# Altium schematic symbol library Capacitor_0805.SchLib: 36 symbols
Pins are listed as number, name and electrical type; pins without a type are passive.

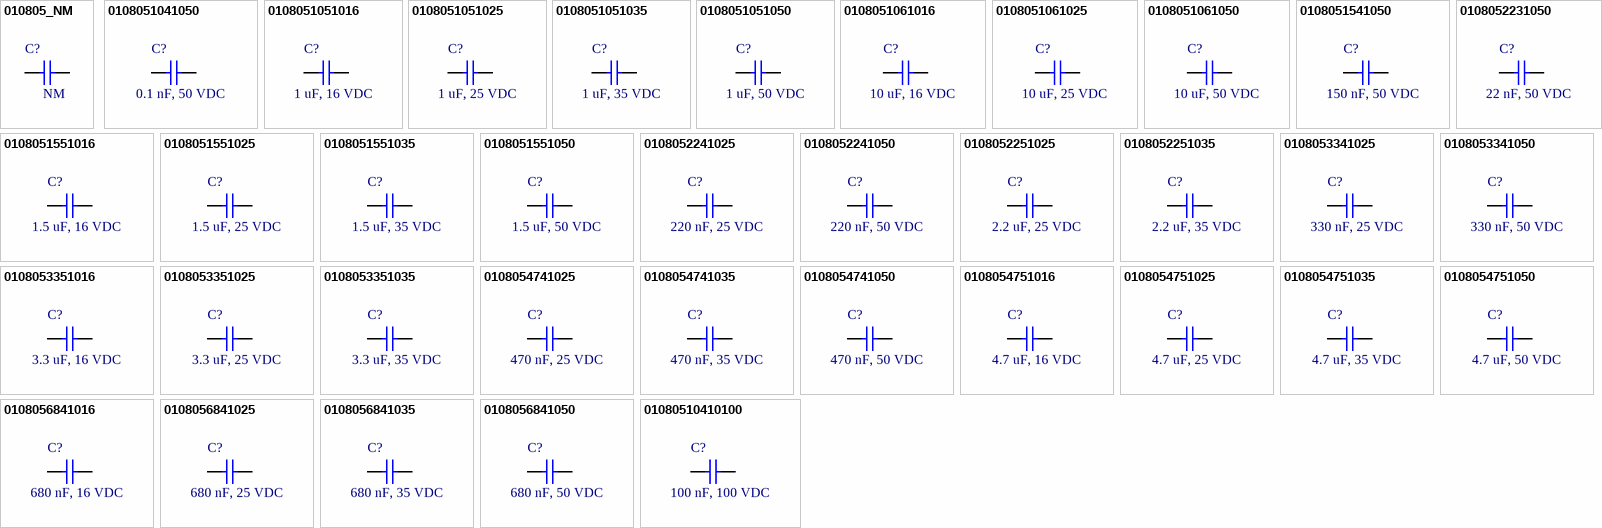
[diagram p0: symbols 010805_NM to 01080510410100]

## 010805_NM
designator C?, comment NM
CAP, size 0805, NM, N/A; Packaging: Tape and Reel; Capacitance: N/A; Supplier 1: Mouser; Supplier 1 Part Number: N/A; Supplier 1 URL: N/A; Supplier 2: Digi-Key; Supplier 2 Part Number: N/A; Supplier 2 URL: N/A; Supplier 3: thegioiic; Supplier 3 Part Number: N/A; Supplier 3 URL: N/A; Tolerance: N/A; Voltage Rating DC: N/A; Value: NM; Manufacturer: N/A; Manufacturer Part Number: N/A; ComponentLink1Description: Datasheet; ComponentLink1URL: N/A; Mount: SMD/SMT; Operating Temperature Max: + 85 C; Operating Temperature Min: - 40 C; Package / Case: 0805; LCSC Part #: N/A
footprint CAP_0805
pins: 1, 2

## 0108051041050
designator C?, comment 0.1 nF, 50 VDC
CAP, size 0805, 0.1 nF, 50 VDC, 10%; Manufacturer: TDK; Manufacturer Part Number: CGA4J2X8R1H104K125AD; Capacitance: 0.1 nF; Tolerance: +/-10%; Voltage Rating DC: 50 VDC; Value: 0.1 nF; Packaging: Tape and Reel; Supplier 1 URL: https://www.mouser.vn/ProductDetail/TDK/CGA4J2X8R1H104K125AD?qs=LcTL%2F5vFEzExqZqv3rh1qQ%3D%3D&utm_source=mouser-refine-download&utm_medium=file&utm_campaign=CGA4J2X8R1H104K125AD&utm_content=TDK; Supplier 2 URL: https://www.digikey.com/en/products/detail/tdk-corporation/cga4j2x8r1h104k125ad/3248169; Supplier 3 URL: N/A; Supplier 1: Mouser; Supplier 1 Part Number: 810-C2012X8R1H104KEP; Supplier 2: Digi-Key; Supplier 2 Part Number: 445-8810-2-ND; Supplier 3: thegioiic; Supplier 3 Part Number: OEM; ComponentLink1Description: Datasheet; ComponentLink1URL: https://product.tdk.com/system/files/dam/doc/product/capacitor/ceramic/mlcc/catalog/mlcc_automotive_epoxy_en.pdf?ref_disty=mouser; Mount: SMD/SMT; Operating Temperature Max: + 85 C; Operating Temperature Min: - 40 C; Package / Case: 0805; LCSC Part #: N/A
footprint CAP_0805
signal-integrity model CapModel
simulation model C_Capacitor_Default (Model Description)
pins: 1, 2

## 0108051051016
designator C?, comment 1 uF, 16 VDC
CAP, size 0805, 1 uF, 16 VDC, 10%; Manufacturer: TDK; Manufacturer Part Number: CGA4J2X7R1C105K125AA; Capacitance: 1 uF; Tolerance: +/-10%; Voltage Rating DC: 16 VDC; Value: 1 uF; Packaging: Tape and Reel; Supplier 1 URL: https://www.mouser.vn/ProductDetail/TDK/CGA4J2X7R1C105K125AA?qs=NRhsANhppD8sFjo%252B1TQuCQ%3D%3D&utm_source=mouser-refine-download&utm_medium=file&utm_campaign=CGA4J2X7R1C105K125AA&utm_content=TDK; Supplier 2 URL: https://www.digikey.com/en/products/detail/tdk-corporation/cga4j2x7r1c105k125aa/2443167; Supplier 3 URL: N/A; Supplier 1: Mouser; Supplier 1 Part Number: 810-CGA4J2X7R1C105K; Supplier 2: Digi-Key; Supplier 2 Part Number: 445-5689-2-ND; Supplier 3: thegioiic; Supplier 3 Part Number: OEM; ComponentLink1Description: Datasheet; ComponentLink1URL: https://product.tdk.com/system/files/dam/doc/product/capacitor/ceramic/mlcc/catalog/mlcc_automotive_general_en.pdf?ref_disty=mouser; Mount: SMD/SMT; Operating Temperature Max: + 85 C; Operating Temperature Min: - 40 C; Package / Case: 0805; LCSC Part #: N/A
footprint CAP_0805
signal-integrity model CapModel
simulation model C_Capacitor_Default (Model Description)
pins: 1, 2

## 0108051051025
designator C?, comment 1 uF, 25 VDC
CAP, size 0805, 1 uF, 25 VDC, 10%; Manufacturer: TDK; Manufacturer Part Number: CGA4J1X8R1E105K125AE; Capacitance: 1 uF; Tolerance: +/-10%; Voltage Rating DC: 25 VDC; Value: 1 uF; Packaging: Tape and Reel; Supplier 1 URL: https://www.mouser.vn/ProductDetail/TDK/CGA4J1X8R1E105K125AE?qs=Ii670aiJhr6VRhkBsruYJg%3D%3D&utm_source=mouser-refine-download&utm_medium=file&utm_campaign=CGA4J1X8R1E105K125AE&utm_content=TDK; Supplier 2 URL: https://www.digikey.com/en/products/detail/tdk-corporation/cga4j1x8r1e105k125ae/6556490; Supplier 3 URL: N/A; Supplier 1: Mouser; Supplier 1 Part Number: 810-A4J1X815K125AE; Supplier 2: Digi-Key; Supplier 2 Part Number: 445-174807-2-ND; Supplier 3: thegioiic; Supplier 3 Part Number: OEM; ComponentLink1Description: Datasheet; ComponentLink1URL: https://product.tdk.com/system/files/dam/doc/product/capacitor/ceramic/mlcc/catalog/mlcc_automotive_soft_en.pdf?ref_disty=mouser; Mount: SMD/SMT; Operating Temperature Max: + 85 C; Operating Temperature Min: - 40 C; Package / Case: 0805; LCSC Part #: N/A
footprint CAP_0805
signal-integrity model CapModel
simulation model C_Capacitor_Default (Model Description)
pins: 1, 2

## 0108051051035
designator C?, comment 1 uF, 35 VDC
CAP, size 0805, 1 uF, 35 VDC, 10%; Manufacturer: TDK; Manufacturer Part Number: CGA4J3X7R1V105K125AE; Capacitance: 1 uF; Tolerance: +/-10%; Voltage Rating DC: 35 VDC; Value: 1 uF; Packaging: Tape and Reel; Supplier 1 URL: https://www.mouser.vn/ProductDetail/TDK/CGA4J3X7R1V105K125AE?qs=nQSIdc08i%252BeiqBo2hW7QzQ%3D%3D&utm_source=mouser-refine-download&utm_medium=file&utm_campaign=CGA4J3X7R1V105K125AE&utm_content=TDK; Supplier 2 URL: https://www.digikey.com/en/products/detail/tdk-corporation/cga4j3x7r1v105k125ae/5809275; Supplier 3 URL: N/A; Supplier 1: Mouser; Supplier 1 Part Number: 810-CGA4J3X7R1V105KA; Supplier 2: Digi-Key; Supplier 2 Part Number: 445-173710-2-ND; Supplier 3: thegioiic; Supplier 3 Part Number: OEM; ComponentLink1Description: Datasheet; ComponentLink1URL: https://product.tdk.com/system/files/dam/doc/product/capacitor/ceramic/mlcc/catalog/mlcc_automotive_soft_en.pdf?ref_disty=mouser; Mount: SMD/SMT; Operating Temperature Max: + 85 C; Operating Temperature Min: - 40 C; Package / Case: 0805; LCSC Part #: N/A
footprint CAP_0805
signal-integrity model CapModel
simulation model C_Capacitor_Default (Model Description)
pins: 1, 2

## 0108051051050
designator C?, comment 1 uF, 50 VDC
CAP, size 0805, 1 uF, 50 VDC, 10%; Manufacturer: TDK; Manufacturer Part Number: CGA4J3X7R1H105K125AB; Capacitance: 1 uF; Tolerance: +/-10%; Voltage Rating DC: 50 VDC; Value: 1 uF; Packaging: Tape and Reel; Supplier 1 URL: https://www.mouser.vn/ProductDetail/TDK/CGA4J3X7R1H105K125AB?qs=NRhsANhppD9cK8XQyI1JTg%3D%3D&utm_source=mouser-refine-download&utm_medium=file&utm_campaign=CGA4J3X7R1H105K125AB&utm_content=TDK; Supplier 2 URL: https://www.digikey.com/en/products/detail/tdk-corporation/cga4j3x7r1h105k125ab/2672854; Supplier 3 URL: N/A; Supplier 1: Mouser; Supplier 1 Part Number: 810-CGA4J3X7R1H105K; Supplier 2: Digi-Key; Supplier 2 Part Number: 445-6961-2-ND; Supplier 3: thegioiic; Supplier 3 Part Number: OEM; ComponentLink1Description: Datasheet; ComponentLink1URL: https://product.tdk.com/system/files/dam/doc/product/capacitor/ceramic/mlcc/catalog/mlcc_automotive_general_en.pdf?ref_disty=mouser; Mount: SMD/SMT; Operating Temperature Max: + 85 C; Operating Temperature Min: - 40 C; Package / Case: 0805; LCSC Part #: C28323
footprint CAP_0805
signal-integrity model CapModel
simulation model C_Capacitor_Default (Model Description)
pins: 1, 2

## 0108051061016
designator C?, comment 10 uF, 16 VDC
CAP, size 0805, 10 uF, 16 VDC, 10%; Manufacturer: TDK; Manufacturer Part Number: CGA4J1X7S1C106K125AE; Capacitance: 10 uF; Tolerance: +/-10%; Voltage Rating DC: 16 VDC; Value: 10 uF; Packaging: Tape and Reel; Supplier 1 URL: https://www.mouser.vn/ProductDetail/TDK/CGA4J1X7S1C106K125AE?qs=nQSIdc08i%252Bda5YDbrVYncg%3D%3D&utm_source=mouser-refine-download&utm_medium=file&utm_campaign=CGA4J1X7S1C106K125AE&utm_content=TDK; Supplier 2 URL: https://www.digikey.com/en/products/detail/tdk-corporation/cga4j1x7s1c106k125ae/5809239; Supplier 3 URL: N/A; Supplier 1: Mouser; Supplier 1 Part Number: 810-CGA4J1X7S1C106KA; Supplier 2: Digi-Key; Supplier 2 Part Number: 445-173674-2-ND; Supplier 3: thegioiic; Supplier 3 Part Number: OEM; ComponentLink1Description: Datasheet; ComponentLink1URL: https://product.tdk.com/system/files/dam/doc/product/capacitor/ceramic/mlcc/catalog/mlcc_automotive_soft_en.pdf?ref_disty=mouser; Mount: SMD/SMT; Operating Temperature Max: + 85 C; Operating Temperature Min: - 40 C; Package / Case: 0805; LCSC Part #: N/A
footprint CAP_0805
signal-integrity model CapModel
simulation model C_Capacitor_Default (Model Description)
pins: 1, 2

## 0108051061025
designator C?, comment 10 uF, 25 VDC
CAP, size 0805, 10 uF, 25 VDC, 10%; Manufacturer: TDK; Manufacturer Part Number: CGA4J1X7S1E106K125AE; Capacitance: 10 uF; Tolerance: +/-10%; Voltage Rating DC: 25 VDC; Value: 10 uF; Packaging: Tape and Reel; Supplier 1 URL: https://www.mouser.vn/ProductDetail/TDK/CGA4J1X7S1E106K125AE?qs=PqoDHHvF64%252BJvhmUzM2odA%3D%3D&utm_source=mouser-refine-download&utm_medium=file&utm_campaign=CGA4J1X7S1E106K125AE&utm_content=TDK; Supplier 2 URL: https://www.digikey.com/en/products/detail/tdk-corporation/cga4j1x7s1e106k125ae/9744777; Supplier 3 URL: N/A; Supplier 1: Mouser; Supplier 1 Part Number: 810-CGA4J1X7S1E106K2; Supplier 2: Digi-Key; Supplier 2 Part Number: 445-181411-2-ND; Supplier 3: thegioiic; Supplier 3 Part Number: OEM; ComponentLink1Description: Datasheet; ComponentLink1URL: https://product.tdk.com/system/files/dam/doc/product/capacitor/ceramic/mlcc/catalog/mlcc_automotive_soft_en.pdf?ref_disty=mouser; Mount: SMD/SMT; Operating Temperature Max: + 85 C; Operating Temperature Min: - 40 C; Package / Case: 0805; LCSC Part #: C15850
footprint CAP_0805
signal-integrity model CapModel
simulation model C_Capacitor_Default (Model Description)
pins: 1, 2

## 0108051061050
designator C?, comment 10 uF, 50 VDC
CAP, size 0805, 10 uF, 50 VDC, 10%; Manufacturer: Samsung Electro-Mechanics; Manufacturer Part Number: CL21A106KBYQNNE; Capacitance: 10 uF; Tolerance: +/-10%; Voltage Rating DC: 50 VDC; Value: 10 uF; Packaging: Tape and Reel; Supplier 1 URL: https://www.mouser.vn/ProductDetail/Samsung-Electro-Mechanics/CL21A106KBYQNNE?qs=xZ%2FP%252Ba9zWqbaYhx2cI%2FT%252BA%3D%3D; Supplier 2 URL: https://www.digikey.com/en/products/detail/samsung-electro-mechanics/cl21a106kbyqnne/16572745; Supplier 3 URL: N/A; Supplier 1: Mouser; Supplier 1 Part Number: 187-CL21A106KBYQNNE; Supplier 2: Digi-Key; Supplier 2 Part Number: 1276-CL21A106KBYQNNETR-ND; Supplier 3: thegioiic; Supplier 3 Part Number: OEM; ComponentLink1Description: Datasheet; ComponentLink1URL: https://www.mouser.vn/datasheet/2/585/MLCC-1837944.pdf; Mount: SMD/SMT; Operating Temperature Max: + 85 C; Operating Temperature Min: - 40 C; Package / Case: 0805; LCSC Part #: C2932476
footprint CAP_0805
signal-integrity model CapModel
simulation model C_Capacitor_Default (Model Description)
pins: 1, 2

## 0108051541050
designator C?, comment 150 nF, 50 VDC
CAP, size 0805, 150 nF, 50 VDC, 10%; Manufacturer: TDK; Manufacturer Part Number: CGA4J2X7R1H154K125AD; Capacitance: 150 nF; Tolerance: +/-10%; Voltage Rating DC: 50 VDC; Value: 150 nF; Packaging: Tape and Reel; Supplier 1 URL: https://www.mouser.vn/ProductDetail/TDK/CGA4J2X7R1H154K125AD?qs=xLDY6iXSiQYlxmVq9lRXDA%3D%3D&utm_source=mouser-refine-download&utm_medium=file&utm_campaign=CGA4J2X7R1H154K125AD&utm_content=TDK; Supplier 2 URL: https://www.digikey.com/en/products/detail/tdk-corporation/cga4j2x7r1h154k125ad/3933662; Supplier 3 URL: N/A; Supplier 1: Mouser; Supplier 1 Part Number: 810-CGA4J2X7R1H154KD; Supplier 2: Digi-Key; Supplier 2 Part Number: 445-9929-2-ND; Supplier 3: thegioiic; Supplier 3 Part Number: OEM; ComponentLink1Description: Datasheet; ComponentLink1URL: https://product.tdk.com/system/files/dam/doc/product/capacitor/ceramic/mlcc/catalog/mlcc_automotive_epoxy_en.pdf?ref_disty=mouser; Mount: SMD/SMT; Operating Temperature Max: + 85 C; Operating Temperature Min: - 40 C; Package / Case: 0805; LCSC Part #: N/A
footprint CAP_0805
signal-integrity model CapModel
simulation model C_Capacitor_Default (Model Description)
pins: 1, 2

## 0108051551016
designator C?, comment 1.5 uF, 16 VDC
CAP, size 0805, 1.5 uF, 16 VDC, 10%; Manufacturer: TDK; Manufacturer Part Number: CGA4J3X7R1C155K125AB; Capacitance: 1.5 uF; Tolerance: +/-10%; Voltage Rating DC: 16 VDC; Value: 1.5 uF; Packaging: Tape and Reel; Supplier 1 URL: https://www.mouser.vn/ProductDetail/TDK/CGA4J3X7R1C155K125AB?qs=NRhsANhppD%252BvVojlPq0ZpA%3D%3D&utm_source=mouser-refine-download&utm_medium=file&utm_campaign=CGA4J3X7R1C155K125AB&utm_content=TDK; Supplier 2 URL: https://www.digikey.com/en/products/detail/tdk-corporation/CGA4J3X7R1C155K125AB/2443168?s=N4IgTCBcDaICxwKwFpEDYCcAGZZkDkAREAXQF8g; Supplier 3 URL: N/A; Supplier 1: Mouser; Supplier 1 Part Number: 810-CGA4J3X7R1C155K; Supplier 2: Digi-Key; Supplier 2 Part Number: 445-5690-2-ND; Supplier 3: thegioiic; Supplier 3 Part Number: OEM; ComponentLink1Description: Datasheet; ComponentLink1URL: https://product.tdk.com/system/files/dam/doc/product/capacitor/ceramic/mlcc/catalog/mlcc_automotive_general_en.pdf?ref_disty=mouser; Mount: SMD/SMT; Operating Temperature Max: + 85 C; Operating Temperature Min: - 40 C; Package / Case: 0805; LCSC Part #: N/A
footprint CAP_0805
signal-integrity model CapModel
simulation model C_Capacitor_Default (Model Description)
pins: 1, 2

## 0108051551025
designator C?, comment 1.5 uF, 25 VDC
CAP, size 0805, 1.5 uF, 25 VDC, 10%; Manufacturer: TDK; Manufacturer Part Number: CGA4J3X7R1E155K125AB; Capacitance: 1.5 uF; Tolerance: +/-10%; Voltage Rating DC: 25 VDC; Value: 1.5 uF; Packaging: Tape and Reel; Supplier 1 URL: https://www.mouser.vn/ProductDetail/TDK/CGA4J3X7R1E155K125AB?qs=xLDY6iXSiQa38s1zD%252BWqlw%3D%3D&utm_source=mouser-refine-download&utm_medium=file&utm_campaign=CGA4J3X7R1E155K125AB&utm_content=TDK; Supplier 2 URL: https://www.digikey.com/en/products/detail/tdk-corporation/cga4j3x7r1e155k125ab/3949992; Supplier 3 URL: N/A; Supplier 1: Mouser; Supplier 1 Part Number: 810-CGA4J3X7R1E155KB; Supplier 2: Digi-Key; Supplier 2 Part Number: 445-12756-2-ND; Supplier 3: thegioiic; Supplier 3 Part Number: OEM; ComponentLink1Description: Datasheet; ComponentLink1URL: https://product.tdk.com/system/files/dam/doc/product/capacitor/ceramic/mlcc/catalog/mlcc_automotive_general_en.pdf?ref_disty=mouser; Mount: SMD/SMT; Operating Temperature Max: + 85 C; Operating Temperature Min: - 40 C; Package / Case: 0805; LCSC Part #: N/A
footprint CAP_0805
signal-integrity model CapModel
simulation model C_Capacitor_Default (Model Description)
pins: 1, 2

## 0108051551035
designator C?, comment 1.5 uF, 35 VDC
CAP, size 0805, 1.5 uF, 35 VDC, 10%; Manufacturer: TDK; Manufacturer Part Number: CGA4J1X7R1V155K125AC; Capacitance: 1.5 uF; Tolerance: +/-10%; Voltage Rating DC: 35 VDC; Value: 1.5 uF; Packaging: Tape and Reel; Supplier 1 URL: https://www.mouser.vn/ProductDetail/TDK/CGA4J1X7R1V155K125AC?qs=xLDY6iXSiQYmXDlSh4LLCg%3D%3D&utm_source=mouser-refine-download&utm_medium=file&utm_campaign=CGA4J1X7R1V155K125AC&utm_content=TDK; Supplier 2 URL: https://www.digikey.com/en/products/detail/tdk-corporation/cga4j1x7r1v155k125ac/3950002; Supplier 3 URL: N/A; Supplier 1: Mouser; Supplier 1 Part Number: 810-CGA4J1X7R1V155KC; Supplier 2: Digi-Key; Supplier 2 Part Number: 445-12766-2-ND; Supplier 3: thegioiic; Supplier 3 Part Number: OEM; ComponentLink1Description: Datasheet; ComponentLink1URL: https://product.tdk.com/system/files/dam/doc/product/capacitor/ceramic/mlcc/catalog/mlcc_automotive_general_en.pdf?ref_disty=mouser; Mount: SMD/SMT; Operating Temperature Max: + 85 C; Operating Temperature Min: - 40 C; Package / Case: 0805; LCSC Part #: N/A
footprint CAP_0805
signal-integrity model CapModel
simulation model C_Capacitor_Default (Model Description)
pins: 1, 2

## 0108051551050
designator C?, comment 1.5 uF, 50 VDC
CAP, size 0805, 1.5 uF, 50 VDC, 10%; Manufacturer: TDK; Manufacturer Part Number: CGA4J3X7R1H155K125AB; Capacitance: 1.5 uF; Tolerance: +/-10%; Voltage Rating DC: 50 VDC; Value: 1.5 uF; Packaging: Tape and Reel; Supplier 1 URL: https://www.mouser.vn/ProductDetail/TDK/CGA4J3X7R1H155K125AB?qs=xLDY6iXSiQYujDvoHVrEpQ%3D%3D&utm_source=mouser-refine-download&utm_medium=file&utm_campaign=CGA4J3X7R1H155K125AB&utm_content=TDK; Supplier 2 URL: https://www.digikey.com/en/products/detail/tdk-corporation/cga4j3x7r1h155k125ab/4931474; Supplier 3 URL: N/A; Supplier 1: Mouser; Supplier 1 Part Number: 810-CGA4J3X7R1H155KB; Supplier 2: Digi-Key; Supplier 2 Part Number: 445-174427-2-ND; Supplier 3: thegioiic; Supplier 3 Part Number: OEM; ComponentLink1Description: Datasheet; ComponentLink1URL: https://product.tdk.com/system/files/dam/doc/product/capacitor/ceramic/mlcc/catalog/mlcc_automotive_general_en.pdf?ref_disty=mouser; Mount: SMD/SMT; Operating Temperature Max: + 85 C; Operating Temperature Min: - 40 C; Package / Case: 0805; LCSC Part #: N/A
footprint CAP_0805
signal-integrity model CapModel
simulation model C_Capacitor_Default (Model Description)
pins: 1, 2

## 0108052231050
designator C?, comment 22 nF, 50 VDC
CAP, size 0805, 22 nF, 50 VDC, 10%; Manufacturer: TDK; Manufacturer Part Number: CEU4J2X7R1H223K125AE; Capacitance: 22 nF; Tolerance: +/-10%; Voltage Rating DC: 50 VDC; Value: 22 nF; Packaging: Tape and Reel; Supplier 1 URL: https://www.mouser.vn/ProductDetail/TDK/CEU4J2X7R1H223K125AE?qs=NRhsANhppD%2FAKCv2humMEQ%3D%3D&utm_source=mouser-refine-download&utm_medium=file&utm_campaign=CEU4J2X7R1H223K125AE&utm_content=TDK; Supplier 2 URL: https://www.digikey.com/en/products/detail/tdk-corporation/ceu4j2x7r1h223k125ae/2781258; Supplier 3 URL: N/A; Supplier 1: Mouser; Supplier 1 Part Number: 810-CEU4J2X7R1H223K; Supplier 2: Digi-Key; Supplier 2 Part Number: 445-7857-2-ND; Supplier 3: thegioiic; Supplier 3 Part Number: OEM; ComponentLink1Description: Datasheet; ComponentLink1URL: https://product.tdk.com/system/files/dam/doc/product/capacitor/ceramic/mlcc/catalog/mlcc_automotive_serial_en.pdf?ref_disty=mouser; Mount: SMD/SMT; Operating Temperature Max: + 85 C; Operating Temperature Min: - 40 C; Package / Case: 0805; LCSC Part #: N/A
footprint CAP_0805
signal-integrity model CapModel
simulation model C_Capacitor_Default (Model Description)
pins: 1, 2

## 0108052241025
designator C?, comment 220 nF, 25 VDC
CAP, size 0805, 220 nF, 25 VDC, 10%; Manufacturer: TDK; Manufacturer Part Number: CGA4J2X8R1E224K125AA; Capacitance: 220 nF; Tolerance: +/-10%; Voltage Rating DC: 25 VDC; Value: 220 nF; Packaging: Tape and Reel; Supplier 1 URL: https://www.mouser.vn/ProductDetail/TDK/CGA4J2X8R1E224K125AA?qs=NRhsANhppD8jKRBHYxeyYA%3D%3D&utm_source=mouser-refine-download&utm_medium=file&utm_campaign=CGA4J2X8R1E224K125AA&utm_content=TDK; Supplier 2 URL: https://www.digikey.com/en/products/detail/tdk-corporation/cga4j2x8r1e224k125aa/2443384; Supplier 3 URL: N/A; Supplier 1: Mouser; Supplier 1 Part Number: 810-CGA4J2X8R1E224K; Supplier 2: Digi-Key; Supplier 2 Part Number: 445-5906-2-ND; Supplier 3: thegioiic; Supplier 3 Part Number: OEM; ComponentLink1Description: Datasheet; ComponentLink1URL: https://product.tdk.com/system/files/dam/doc/product/capacitor/ceramic/mlcc/catalog/mlcc_automotive_hightemp_en.pdf?ref_disty=mouser; Mount: SMD/SMT; Operating Temperature Max: + 85 C; Operating Temperature Min: - 40 C; Package / Case: 0805; LCSC Part #: N/A
footprint CAP_0805
signal-integrity model CapModel
simulation model C_Capacitor_Default (Model Description)
pins: 1, 2

## 0108052241050
designator C?, comment 220 nF, 50 VDC
CAP, size 0805, 220 nF, 50 VDC, 10%; Manufacturer: TDK; Manufacturer Part Number: CGA4J3X8R1H224K125AE; Capacitance: 220 nF; Tolerance: +/-10%; Voltage Rating DC: 50 VDC; Value: 220 nF; Packaging: Tape and Reel; Supplier 1 URL: https://www.mouser.vn/ProductDetail/TDK/CGA4J3X8R1H224K125AE?qs=nQSIdc08i%252Be86pkEPTvECQ%3D%3D&utm_source=mouser-refine-download&utm_medium=file&utm_campaign=CGA4J3X8R1H224K125AE&utm_content=TDK; Supplier 2 URL: https://www.digikey.com/en/products/detail/tdk-corporation/cga4j3x8r1h224k125ae/5809350; Supplier 3 URL: N/A; Supplier 1: Mouser; Supplier 1 Part Number: 810-CGA4J3X8R1H224KA; Supplier 2: Digi-Key; Supplier 2 Part Number: 445-173785-2-ND; Supplier 3: thegioiic; Supplier 3 Part Number: OEM; ComponentLink1Description: Datasheet; ComponentLink1URL: https://product.tdk.com/system/files/dam/doc/product/capacitor/ceramic/mlcc/catalog/mlcc_automotive_soft_en.pdf?ref_disty=mouser; Mount: SMD/SMT; Operating Temperature Max: + 85 C; Operating Temperature Min: - 40 C; Package / Case: 0805; LCSC Part #: N/A
footprint CAP_0805
signal-integrity model CapModel
simulation model C_Capacitor_Default (Model Description)
pins: 1, 2

## 0108052251025
designator C?, comment 2.2 uF, 25 VDC
CAP, size 0805, 2.2 uF, 25 VDC, 10%; Manufacturer: TDK; Manufacturer Part Number: CGA4J3X7R1E225K125AD; Capacitance: 2.2 uF; Tolerance: +/-10%; Voltage Rating DC: 25 VDC; Value: 2.2 uF; Packaging: Tape and Reel; Supplier 1 URL: https://www.mouser.vn/ProductDetail/TDK/CGA4J3X7R1E225K125AD?qs=xLDY6iXSiQZ6drRfaPQTzQ%3D%3D&utm_source=mouser-refine-download&utm_medium=file&utm_campaign=CGA4J3X7R1E225K125AD&utm_content=TDK; Supplier 2 URL: https://www.digikey.com/en/products/detail/tdk-corporation/cga4j3x7r1e225k125ad/3933656; Supplier 3 URL: N/A; Supplier 1: Mouser; Supplier 1 Part Number: 810-CGA4J3X7R1E225KD; Supplier 2: Digi-Key; Supplier 2 Part Number: 445-9923-2-ND; Supplier 3: thegioiic; Supplier 3 Part Number: OEM; ComponentLink1Description: Datasheet; ComponentLink1URL: https://product.tdk.com/system/files/dam/doc/product/capacitor/ceramic/mlcc/catalog/mlcc_automotive_epoxy_en.pdf?ref_disty=mouser; Mount: SMD/SMT; Operating Temperature Max: + 85 C; Operating Temperature Min: - 40 C; Package / Case: 0805; LCSC Part #: N/A
footprint CAP_0805
signal-integrity model CapModel
simulation model C_Capacitor_Default (Model Description)
pins: 1, 2

## 0108052251035
designator C?, comment 2.2 uF, 35 VDC
CAP, size 0805, 2.2 uF, 35 VDC, 10%; Manufacturer: TDK; Manufacturer Part Number: CGA4J1X7R1V225K125AC; Capacitance: 2.2 uF; Tolerance: +/-10%; Voltage Rating DC: 35 VDC; Value: 2.2 uF; Packaging: Tape and Reel; Supplier 1 URL: https://www.mouser.vn/ProductDetail/TDK/CGA4J1X7R1V225K125AC?qs=NRhsANhppD%2FTd0jz18r29g%3D%3D&utm_source=mouser-refine-download&utm_medium=file&utm_campaign=CGA4J1X7R1V225K125AC&utm_content=TDK; Supplier 2 URL: https://www.digikey.com/en/products/detail/tdk-corporation/cga4j1x7r1v225k125ac/2672856; Supplier 3 URL: N/A; Supplier 1: Mouser; Supplier 1 Part Number: 810-CGA4J1X7R1V225K; Supplier 2: Digi-Key; Supplier 2 Part Number: 445-6963-2-ND; Supplier 3: thegioiic; Supplier 3 Part Number: OEM; ComponentLink1Description: Datasheet; ComponentLink1URL: https://product.tdk.com/system/files/dam/doc/product/capacitor/ceramic/mlcc/catalog/mlcc_automotive_general_en.pdf?ref_disty=mouser; Mount: SMD/SMT; Operating Temperature Max: + 85 C; Operating Temperature Min: - 40 C; Package / Case: 0805; LCSC Part #: C342739
footprint CAP_0805
signal-integrity model CapModel
simulation model C_Capacitor_Default (Model Description)
pins: 1, 2

## 0108053341025
designator C?, comment 330 nF, 25 VDC
CAP, size 0805, 330 nF, 25 VDC, 10%; Manufacturer: TDK; Manufacturer Part Number: CGA4J2X8R1E334K125AE; Capacitance: 330 nF; Tolerance: +/-10%; Voltage Rating DC: 25 VDC; Value: 330 nF; Packaging: Tape and Reel; Supplier 1 URL: https://www.mouser.vn/ProductDetail/TDK/CGA4J2X8R1E334K125AE?qs=nQSIdc08i%252BcDh3TeoUYmyA%3D%3D&utm_source=mouser-refine-download&utm_medium=file&utm_campaign=CGA4J2X8R1E334K125AE&utm_content=TDK; Supplier 2 URL: https://www.digikey.com/en/products/detail/tdk-corporation/cga4j2x8r1e334k125ae/5809425; Supplier 3 URL: N/A; Supplier 1: Mouser; Supplier 1 Part Number: 810-CGA4J2X8R1E334KA; Supplier 2: Digi-Key; Supplier 2 Part Number: 445-173860-2-ND; Supplier 3: thegioiic; Supplier 3 Part Number: OEM; ComponentLink1Description: Datasheet; ComponentLink1URL: https://product.tdk.com/system/files/dam/doc/product/capacitor/ceramic/mlcc/catalog/mlcc_automotive_soft_en.pdf?ref_disty=mouser; Mount: SMD/SMT; Operating Temperature Max: + 85 C; Operating Temperature Min: - 40 C; Package / Case: 0805; LCSC Part #: N/A
footprint CAP_0805
signal-integrity model CapModel
simulation model C_Capacitor_Default (Model Description)
pins: 1, 2

## 0108053341050
designator C?, comment 330 nF, 50 VDC
CAP, size 0805, 330 nF, 50 VDC, 10%; Manufacturer: TDK; Manufacturer Part Number: CGA4J2X7R1H334K125AD; Capacitance: 330 nF; Tolerance: +/-10%; Voltage Rating DC: 50 VDC; Value: 330 nF; Packaging: Tape and Reel; Supplier 1 URL: https://www.mouser.vn/ProductDetail/TDK/CGA4J2X7R1H334K125AD?qs=xLDY6iXSiQb7ZJMECTmK7Q%3D%3D&utm_source=mouser-refine-download&utm_medium=file&utm_campaign=CGA4J2X7R1H334K125AD&utm_content=TDK; Supplier 2 URL: https://www.digikey.com/en/products/detail/tdk-corporation/cga4j2x7r1h334k125ad/3933666; Supplier 3 URL: N/A; Supplier 1: Mouser; Supplier 1 Part Number: 810-CGA4J2X7R1H334KD; Supplier 2: Digi-Key; Supplier 2 Part Number: 445-9933-2-ND; Supplier 3: thegioiic; Supplier 3 Part Number: OEM; ComponentLink1Description: Datasheet; ComponentLink1URL: https://product.tdk.com/system/files/dam/doc/product/capacitor/ceramic/mlcc/catalog/mlcc_automotive_epoxy_en.pdf?ref_disty=mouser; Mount: SMD/SMT; Operating Temperature Max: + 85 C; Operating Temperature Min: - 40 C; Package / Case: 0805; LCSC Part #: N/A
footprint CAP_0805
signal-integrity model CapModel
simulation model C_Capacitor_Default (Model Description)
pins: 1, 2

## 0108053351016
designator C?, comment 3.3 uF, 16 VDC
CAP, size 0805, 3.3 uF, 16 VDC, 10%; Manufacturer: TDK; Manufacturer Part Number: CGA4J1X8L1C335K125AC; Capacitance: 3.3 uF; Tolerance: +/-10%; Voltage Rating DC: 16 VDC; Value: 3.3 uF; Packaging: Tape and Reel; Supplier 1 URL: https://www.mouser.vn/ProductDetail/TDK/CGA4J1X8L1C335K125AC?qs=j%252B1pi9TdxUbi1c9Zq1jQkQ%3D%3D&utm_source=mouser-refine-download&utm_medium=file&utm_campaign=CGA4J1X8L1C335K125AC&utm_content=TDK; Supplier 2 URL: https://www.digikey.com/en/products/detail/tdk-corporation/cga4j1x8l1c335k125ac/7930940; Supplier 3 URL: N/A; Supplier 1: Mouser; Supplier 1 Part Number: 810-CGA4J1X8L335K125; Supplier 2: Digi-Key; Supplier 2 Part Number: 445-175265-2-ND; Supplier 3: thegioiic; Supplier 3 Part Number: OEM; ComponentLink1Description: Datasheet; ComponentLink1URL: https://product.tdk.com/system/files/dam/doc/product/capacitor/ceramic/mlcc/catalog/mlcc_automotive_hightemp_en.pdf?ref_disty=mouser; Mount: SMD/SMT; Operating Temperature Max: + 85 C; Operating Temperature Min: - 40 C; Package / Case: 0805; LCSC Part #: N/A
footprint CAP_0805
signal-integrity model CapModel
simulation model C_Capacitor_Default (Model Description)
pins: 1, 2

## 0108053351025
designator C?, comment 3.3 uF, 25 VDC
CAP, size 0805, 3.3 uF, 25 VDC, 10%; Manufacturer: TDK; Manufacturer Part Number: CGA4J1X7R1E335K125AD; Capacitance: 3.3 uF; Tolerance: +/-10%; Voltage Rating DC: 25 VDC; Value: 3.3 uF; Packaging: Tape and Reel; Supplier 1 URL: https://www.mouser.vn/ProductDetail/TDK/CGA4J1X7R1E335K125AD?qs=xLDY6iXSiQbcRzfD3G%2FyFQ%3D%3D&utm_source=mouser-refine-download&utm_medium=file&utm_campaign=CGA4J1X7R1E335K125AD&utm_content=TDK; Supplier 2 URL: https://www.digikey.com/en/products/detail/tdk-corporation/cga4j1x7r1e335k125ad/3933658; Supplier 3 URL: N/A; Supplier 1: Mouser; Supplier 1 Part Number: 810-CGA4J1X7R1E335KD; Supplier 2: Digi-Key; Supplier 2 Part Number: 445-9925-2-ND; Supplier 3: thegioiic; Supplier 3 Part Number: OEM; ComponentLink1Description: Datasheet; ComponentLink1URL: https://product.tdk.com/system/files/dam/doc/product/capacitor/ceramic/mlcc/catalog/mlcc_automotive_epoxy_en.pdf?ref_disty=mouser; Mount: SMD/SMT; Operating Temperature Max: + 85 C; Operating Temperature Min: - 40 C; Package / Case: 0805; LCSC Part #: N/A
footprint CAP_0805
signal-integrity model CapModel
simulation model C_Capacitor_Default (Model Description)
pins: 1, 2

## 0108053351035
designator C?, comment 3.3 uF, 35 VDC
CAP, size 0805, 3.3 uF, 35 VDC, 10%; Manufacturer: TDK; Manufacturer Part Number: CGA4J3X5R1V335K125AB; Capacitance: 3.3 uF; Tolerance: +/-10%; Voltage Rating DC: 35 VDC; Value: 3.3 uF; Packaging: Tape and Reel; Supplier 1 URL: https://www.mouser.vn/ProductDetail/TDK/CGA4J3X5R1V335K125AB?qs=xLDY6iXSiQaFSu7gdlt5sQ%3D%3D&utm_source=mouser-refine-download&utm_medium=file&utm_campaign=CGA4J3X5R1V335K125AB&utm_content=TDK; Supplier 2 URL: https://www.digikey.com/en/products/detail/tdk-corporation/cga4j3x5r1v335k125ab/3949923; Supplier 3 URL: N/A; Supplier 1: Mouser; Supplier 1 Part Number: 810-CGA4J3X5R1V335KB; Supplier 2: Digi-Key; Supplier 2 Part Number: 445-12687-2-ND; Supplier 3: thegioiic; Supplier 3 Part Number: OEM; ComponentLink1Description: Datasheet; ComponentLink1URL: https://product.tdk.com/system/files/dam/doc/product/capacitor/ceramic/mlcc/catalog/mlcc_automotive_general_en.pdf?ref_disty=mouser; Mount: SMD/SMT; Operating Temperature Max: + 85 C; Operating Temperature Min: - 40 C; Package / Case: 0805; LCSC Part #: N/A
footprint CAP_0805
signal-integrity model CapModel
simulation model C_Capacitor_Default (Model Description)
pins: 1, 2

## 0108054741025
designator C?, comment 470 nF, 25 VDC
CAP, size 0805, 470 nF, 25 VDC, 10%; Manufacturer: TDK; Manufacturer Part Number: CGA4J3X8R1E474K125AE; Capacitance: 470 nF; Tolerance: +/-10%; Voltage Rating DC: 25 VDC; Value: 470 nF; Packaging: Tape and Reel; Supplier 1 URL: https://www.mouser.vn/ProductDetail/TDK/CGA4J3X8R1E474K125AE?qs=nQSIdc08i%252BfiTEOWbexQ7w%3D%3D&utm_source=mouser-refine-download&utm_medium=file&utm_campaign=CGA4J3X8R1E474K125AE&utm_content=TDK; Supplier 2 URL: https://www.digikey.com/en/products/detail/tdk-corporation/cga4j3x8r1h224k125ae/5809350; Supplier 3 URL: N/A; Supplier 1: Mouser; Supplier 1 Part Number: 810-CGA4J3X8R1E474KA; Supplier 2: Digi-Key; Supplier 2 Part Number: 445-173832-2-ND; Supplier 3: thegioiic; Supplier 3 Part Number: OEM; ComponentLink1Description: Datasheet; ComponentLink1URL: https://product.tdk.com/system/files/dam/doc/product/capacitor/ceramic/mlcc/catalog/mlcc_automotive_soft_en.pdf?ref_disty=mouser; Mount: SMD/SMT; Operating Temperature Max: + 85 C; Operating Temperature Min: - 40 C; Package / Case: 0805; LCSC Part #: N/A
footprint CAP_0805
signal-integrity model CapModel
simulation model C_Capacitor_Default (Model Description)
pins: 1, 2

## 0108054741035
designator C?, comment 470 nF, 35 VDC
CAP, size 0805, 470 nF, 35 VDC, 10%; Manufacturer: TDK; Manufacturer Part Number: CGA4J3X7R1V474K125AB; Capacitance: 470 nF; Tolerance: +/-10%; Voltage Rating DC: 35 VDC; Value: 470 nF; Packaging: Tape and Reel; Supplier 1 URL: https://www.mouser.vn/ProductDetail/TDK/CGA4J3X7R1V474K125AB?qs=xLDY6iXSiQZN9K9El4TmtA%3D%3D&utm_source=mouser-refine-download&utm_medium=file&utm_campaign=CGA4J3X7R1V474K125AB&utm_content=TDK; Supplier 2 URL: https://www.digikey.com/en/products/detail/tdk-corporation/cga4j3x7r1v474k125ab/3949998; Supplier 3 URL: N/A; Supplier 1: Mouser; Supplier 1 Part Number: 810-CGA4J3X7R1V474KB; Supplier 2: Digi-Key; Supplier 2 Part Number: 445-12762-2-ND; Supplier 3: thegioiic; Supplier 3 Part Number: OEM; ComponentLink1Description: Datasheet; ComponentLink1URL: https://product.tdk.com/system/files/dam/doc/product/capacitor/ceramic/mlcc/catalog/mlcc_automotive_general_en.pdf?ref_disty=mouser; Mount: SMD/SMT; Operating Temperature Max: + 85 C; Operating Temperature Min: - 40 C; Package / Case: 0805; LCSC Part #: N/A
footprint CAP_0805
signal-integrity model CapModel
simulation model C_Capacitor_Default (Model Description)
pins: 1, 2

## 0108054741050
designator C?, comment 470 nF, 50 VDC
CAP, size 0805, 470 nF, 50 VDC, 10%; Manufacturer: TDK; Manufacturer Part Number: CGA4J3X7R1H474K125AE; Capacitance: 470 nF; Tolerance: +/-10%; Voltage Rating DC: 50 VDC; Value: 470 nF; Packaging: Tape and Reel; Supplier 1 URL: https://www.mouser.vn/ProductDetail/TDK/CGA4J3X7R1H474K125AE?qs=FxQuwy19cyDyq8KZpp3nzQ%3D%3D&utm_source=mouser-refine-download&utm_medium=file&utm_campaign=CGA4J3X7R1H474K125AE&utm_content=TDK; Supplier 2 URL: https://www.digikey.com/en/products/detail/tdk-corporation/cga4j3x7r1h474k125ae/3248496; Supplier 3 URL: N/A; Supplier 1: Mouser; Supplier 1 Part Number: 810-CGA4J3X7R1H474KS; Supplier 2: Digi-Key; Supplier 2 Part Number: 445-8786-2-ND; Supplier 3: thegioiic; Supplier 3 Part Number: OEM; ComponentLink1Description: Datasheet; ComponentLink1URL: https://product.tdk.com/system/files/dam/doc/product/capacitor/ceramic/mlcc/catalog/mlcc_automotive_soft_en.pdf?ref_disty=mouser; Mount: SMD/SMT; Operating Temperature Max: + 85 C; Operating Temperature Min: - 40 C; Package / Case: 0805; LCSC Part #: N/A
footprint CAP_0805
signal-integrity model CapModel
simulation model C_Capacitor_Default (Model Description)
pins: 1, 2

## 0108054751016
designator C?, comment 4.7 uF, 16 VDC
CAP, size 0805, 4.7 uF, 16 VDC, 10%; Manufacturer: TDK; Manufacturer Part Number: CGA4J3X7R1C475K125AD; Capacitance: 4.7 uF; Tolerance: +/-10%; Voltage Rating DC: 16 VDC; Value: 4.7 uF; Packaging: Tape and Reel; Supplier 1 URL: https://www.mouser.vn/ProductDetail/TDK/CGA4J3X7R1C475K125AD?qs=xLDY6iXSiQZQocmEz6J2xQ%3D%3D&utm_source=mouser-refine-download&utm_medium=file&utm_campaign=CGA4J3X7R1C475K125AD&utm_content=TDK; Supplier 2 URL: https://www.digikey.com/en/products/detail/tdk-corporation/cga4j3x7r1c475k125ad/3933647; Supplier 3 URL: N/A; Supplier 1: Mouser; Supplier 1 Part Number: 810-CGA4J3X7R1C475KD; Supplier 2: Digi-Key; Supplier 2 Part Number: 445-9914-2-ND; Supplier 3: thegioiic; Supplier 3 Part Number: OEM; ComponentLink1Description: Datasheet; ComponentLink1URL: https://product.tdk.com/system/files/dam/doc/product/capacitor/ceramic/mlcc/catalog/mlcc_automotive_epoxy_en.pdf?ref_disty=mouser; Mount: SMD/SMT; Operating Temperature Max: + 85 C; Operating Temperature Min: - 40 C; Package / Case: 0805; LCSC Part #: N/A
footprint CAP_0805
signal-integrity model CapModel
simulation model C_Capacitor_Default (Model Description)
pins: 1, 2

## 0108054751025
designator C?, comment 4.7 uF, 25 VDC
CAP, size 0805, 4.7 uF, 25 VDC, 10%; Manufacturer: TDK; Manufacturer Part Number: CGA4J1X8L1E475K125AC; Capacitance: 4.7 uF; Tolerance: +/-10%; Voltage Rating DC: 25 VDC; Value: 4.7 uF; Packaging: Tape and Reel; Supplier 1 URL: https://www.mouser.vn/ProductDetail/TDK/CGA4J1X8L1E475K125AC?qs=gZXFycFWdANxpKJOMQuJTA%3D%3D&utm_source=mouser-refine-download&utm_medium=file&utm_campaign=CGA4J1X8L1E475K125AC&utm_content=TDK; Supplier 2 URL: https://www.digikey.com/en/products/detail/tdk-corporation/cga4j1x8l1e475k125ac/9991390; Supplier 3 URL: N/A; Supplier 1: Mouser; Supplier 1 Part Number: 810-CGA4J1X8L1E125AC; Supplier 2: Digi-Key; Supplier 2 Part Number: 445-181605-2-ND; Supplier 3: thegioiic; Supplier 3 Part Number: OEM; ComponentLink1Description: Datasheet; ComponentLink1URL: https://product.tdk.com/system/files/dam/doc/product/capacitor/ceramic/mlcc/catalog/mlcc_automotive_hightemp_en.pdf?ref_disty=mouser; Mount: SMD/SMT; Operating Temperature Max: + 85 C; Operating Temperature Min: - 40 C; Package / Case: 0805; LCSC Part #: N/A
footprint CAP_0805
signal-integrity model CapModel
simulation model C_Capacitor_Default (Model Description)
pins: 1, 2

## 0108054751035
designator C?, comment 4.7 uF, 35 VDC
CAP, size 0805, 4.7 uF, 35 VDC, 10%; Manufacturer: TDK; Manufacturer Part Number: CGA4J1X7R1V475K125AC; Capacitance: 4.7 uF; Tolerance: +/-10%; Voltage Rating DC: 35 VDC; Value: 4.7 uF; Packaging: Tape and Reel; Supplier 1 URL: https://www.mouser.vn/ProductDetail/TDK/CGA4J1X7R1V475K125AC?qs=xLDY6iXSiQZ6d6YyEJDECQ%3D%3D&utm_source=mouser-refine-download&utm_medium=file&utm_campaign=CGA4J1X7R1V475K125AC&utm_content=TDK; Supplier 2 URL: https://www.digikey.com/en/products/detail/tdk-corporation/cga4j1x7r1v475k125ac/4931472; Supplier 3 URL: N/A; Supplier 1: Mouser; Supplier 1 Part Number: 810-CGA4J1X7R1V475KC; Supplier 2: Digi-Key; Supplier 2 Part Number: 445-175363-2-ND; Supplier 3: thegioiic; Supplier 3 Part Number: OEM; ComponentLink1Description: Datasheet; ComponentLink1URL: https://product.tdk.com/system/files/dam/doc/product/capacitor/ceramic/mlcc/catalog/mlcc_automotive_general_en.pdf?ref_disty=mouser; Mount: SMD/SMT; Operating Temperature Max: + 85 C; Operating Temperature Min: - 40 C; Package / Case: 0805; LCSC Part #: C76651
footprint CAP_0805
signal-integrity model CapModel
simulation model C_Capacitor_Default (Model Description)
pins: 1, 2

## 0108054751050
designator C?, comment 4.7 uF, 50 VDC
CAP, size 0805, 4.7 uF, 50 VDC, 10%; Manufacturer: TDK; Manufacturer Part Number: CGA4J3X5R1H475K125AB; Capacitance: 4.7 uF; Tolerance: +/-10%; Voltage Rating DC: 50 VDC; Value: 4.7 uF; Packaging: Tape and Reel; Supplier 1 URL: https://www.mouser.vn/ProductDetail/TDK/CGA4J3X5R1H475K125AB?qs=NRhsANhppD%252BfIryPrxoYXQ%3D%3D&utm_source=mouser-refine-download&utm_medium=file&utm_campaign=CGA4J3X5R1H475K125AB&utm_content=TDK; Supplier 2 URL: https://www.digikey.com/en/products/detail/tdk-corporation/cga4j3x5r1h475k125ab/2781308; Supplier 3 URL: N/A; Supplier 1: Mouser; Supplier 1 Part Number: 810-CGA4J3X5R1H475K; Supplier 2: Digi-Key; Supplier 2 Part Number: 445-7882-2-ND; Supplier 3: thegioiic; Supplier 3 Part Number: OEM; ComponentLink1Description: Datasheet; ComponentLink1URL: https://product.tdk.com/system/files/dam/doc/product/capacitor/ceramic/mlcc/catalog/mlcc_automotive_general_en.pdf?ref_disty=mouser; Mount: SMD/SMT; Operating Temperature Max: + 85 C; Operating Temperature Min: - 40 C; Package / Case: 0805; LCSC Part #: C98192
footprint CAP_0805
signal-integrity model CapModel
simulation model C_Capacitor_Default (Model Description)
pins: 1, 2

## 0108056841016
designator C?, comment 680 nF, 16 VDC
CAP, size 0805, 680 nF, 16 VDC, 10%; Manufacturer: TDK; Manufacturer Part Number: CGA4J2X7R1C684K125AA; Capacitance: 680 nF; Tolerance: +/-10%; Voltage Rating DC: 16 VDC; Value: 680 nF; Packaging: Tape and Reel; Supplier 1 URL: https://www.mouser.vn/ProductDetail/TDK/CGA4J2X7R1C684K125AA?qs=NRhsANhppD9WodL6Bvio4Q%3D%3D&utm_source=mouser-refine-download&utm_medium=file&utm_campaign=CGA4J2X7R1C684K125AA&utm_content=TDK; Supplier 2 URL: https://www.digikey.com/en/products/detail/tdk-corporation/cga4j2x7r1c684k125aa/2443166; Supplier 3 URL: N/A; Supplier 1: Mouser; Supplier 1 Part Number: 810-CGA4J2X7R1C684K; Supplier 2: Digi-Key; Supplier 2 Part Number: 445-5688-2-ND; Supplier 3: thegioiic; Supplier 3 Part Number: OEM; ComponentLink1Description: Datasheet; ComponentLink1URL: https://product.tdk.com/system/files/dam/doc/product/capacitor/ceramic/mlcc/catalog/mlcc_automotive_general_en.pdf?ref_disty=mouser; Mount: SMD/SMT; Operating Temperature Max: + 85 C; Operating Temperature Min: - 40 C; Package / Case: 0805; LCSC Part #: N/A
footprint CAP_0805
signal-integrity model CapModel
simulation model C_Capacitor_Default (Model Description)
pins: 1, 2

## 0108056841025
designator C?, comment 680 nF, 25 VDC
CAP, size 0805, 680 nF, 25 VDC, 10%; Manufacturer: TDK; Manufacturer Part Number: CGA4J3X7R1E684K125AD; Capacitance: 680 nF; Tolerance: +/-10%; Voltage Rating DC: 25 VDC; Value: 680 nF; Packaging: Tape and Reel; Supplier 1 URL: https://www.mouser.vn/ProductDetail/TDK/CGA4J3X7R1E684K125AD?qs=xLDY6iXSiQZgK1EDgpiQ%252Bg%3D%3D&utm_source=mouser-refine-download&utm_medium=file&utm_campaign=CGA4J3X7R1E684K125AD&utm_content=TDK; Supplier 2 URL: https://www.digikey.com/en/products/detail/tdk-corporation/cga4j3x7r1e684k125ad/3933651; Supplier 3 URL: N/A; Supplier 1: Mouser; Supplier 1 Part Number: 810-CGA4J3X7R1E684KD; Supplier 2: Digi-Key; Supplier 2 Part Number: 445-9918-2-ND; Supplier 3: thegioiic; Supplier 3 Part Number: OEM; ComponentLink1Description: Datasheet; ComponentLink1URL: https://product.tdk.com/system/files/dam/doc/product/capacitor/ceramic/mlcc/catalog/mlcc_automotive_epoxy_en.pdf?ref_disty=mouser; Mount: SMD/SMT; Operating Temperature Max: + 85 C; Operating Temperature Min: - 40 C; Package / Case: 0805; LCSC Part #: N/A
footprint CAP_0805
signal-integrity model CapModel
simulation model C_Capacitor_Default (Model Description)
pins: 1, 2

## 0108056841035
designator C?, comment 680 nF, 35 VDC
CAP, size 0805, 680 nF, 35 VDC, 10%; Manufacturer: TDK; Manufacturer Part Number: CGA4J3X7R1V684K125AB; Capacitance: 680 nF; Tolerance: +/-10%; Voltage Rating DC: 35 VDC; Value: 680 nF; Packaging: Tape and Reel; Supplier 1 URL: https://www.mouser.vn/ProductDetail/TDK/CGA4J3X7R1V684K125AB?qs=xLDY6iXSiQaShuurH7S4IQ%3D%3D&utm_source=mouser-refine-download&utm_medium=file&utm_campaign=CGA4J3X7R1V684K125AB&utm_content=TDK; Supplier 2 URL: https://www.digikey.com/en/products/detail/tdk-corporation/cga4j3x7r1v684k125ab/3950000; Supplier 3 URL: N/A; Supplier 1: Mouser; Supplier 1 Part Number: 810-CGA4J3X7R1V684KB; Supplier 2: Digi-Key; Supplier 2 Part Number: 445-12764-2-ND; Supplier 3: thegioiic; Supplier 3 Part Number: OEM; ComponentLink1Description: Datasheet; ComponentLink1URL: https://product.tdk.com/system/files/dam/doc/product/capacitor/ceramic/mlcc/catalog/mlcc_automotive_general_en.pdf?ref_disty=mouser; Mount: SMD/SMT; Operating Temperature Max: + 85 C; Operating Temperature Min: - 40 C; Package / Case: 0805; LCSC Part #: N/A
footprint CAP_0805
signal-integrity model CapModel
simulation model C_Capacitor_Default (Model Description)
pins: 1, 2

## 0108056841050
designator C?, comment 680 nF, 50 VDC
CAP, size 0805, 680 nF, 50 VDC, 10%; Manufacturer: TDK; Manufacturer Part Number: CGA4J3X7R1H684K125AB; Capacitance: 680 nF; Tolerance: +/-10%; Voltage Rating DC: 50 VDC; Value: 680 nF; Packaging: Tape and Reel; Supplier 1 URL: https://www.mouser.vn/ProductDetail/TDK/CGA4J3X7R1H684K125AB?qs=NRhsANhppD%252BvDK7XQZcGfw%3D%3D&utm_source=mouser-refine-download&utm_medium=file&utm_campaign=CGA4J3X7R1H684K125AB&utm_content=TDK; Supplier 2 URL: https://www.digikey.com/en/products/detail/tdk-corporation/cga4j3x7r1h684k125ab/2672853; Supplier 3 URL: N/A; Supplier 1: Mouser; Supplier 1 Part Number: 810-CGA4J3X7R1H684K; Supplier 2: Digi-Key; Supplier 2 Part Number: 445-6960-2-ND; Supplier 3: thegioiic; Supplier 3 Part Number: OEM; ComponentLink1Description: Datasheet; ComponentLink1URL: https://product.tdk.com/system/files/dam/doc/product/capacitor/ceramic/mlcc/catalog/mlcc_automotive_general_en.pdf?ref_disty=mouser; Mount: SMD/SMT; Operating Temperature Max: + 85 C; Operating Temperature Min: - 40 C; Package / Case: 0805; LCSC Part #: N/A
footprint CAP_0805
signal-integrity model CapModel
simulation model C_Capacitor_Default (Model Description)
pins: 1, 2

## 01080510410100
designator C?, comment 100 nF, 100 VDC
CAP, size 0805, 100 nF, 100 VDC, 10%; Manufacturer: Samsung Electro-Mechanics; Manufacturer Part Number: CGA4J2X7R1H154K125AD; Capacitance: 100 nF; Tolerance: +/-10%; Voltage Rating DC: 100 VDC; Value: 100 nF; Packaging: Tape and Reel; Supplier 1 URL: https://www.mouser.vn/en/ProductDetail/Samsung-Electro-Mechanics/CL21B104KCFNNNE?qs=lptGheUA4EwiEGVRX9oguw%3D%3D; Supplier 2 URL: https://www.digikey.com/en/products/detail/samsung-electro-mechanics/cl21b104kcfnnne/5961324; Supplier 3 URL: N/A; Supplier 1: Mouser; Supplier 1 Part Number: 187-CL21B104KCFNNNE; Supplier 2: Digi-Key; Supplier 2 Part Number: 1276-6840-2-ND; Supplier 3: thegioiic; Supplier 3 Part Number: N/A; ComponentLink1Description: Datasheet; ComponentLink1URL: https://product.tdk.com/system/files/dam/doc/product/capacitor/ceramic/mlcc/catalog/mlcc_automotive_epoxy_en.pdf?ref_disty=mouser; Mount: SMD/SMT; Operating Temperature Max: + 85 C; Operating Temperature Min: - 40 C; Package / Case: 0805; LCSC Part #: C28233
footprint CAP_0805
signal-integrity model CapModel
simulation model C_Capacitor_Default (Model Description)
pins: 1, 2